# EAGLE library part TC55V16100FT (library xess)
Toshiba 1Mx16 Async. SRAM
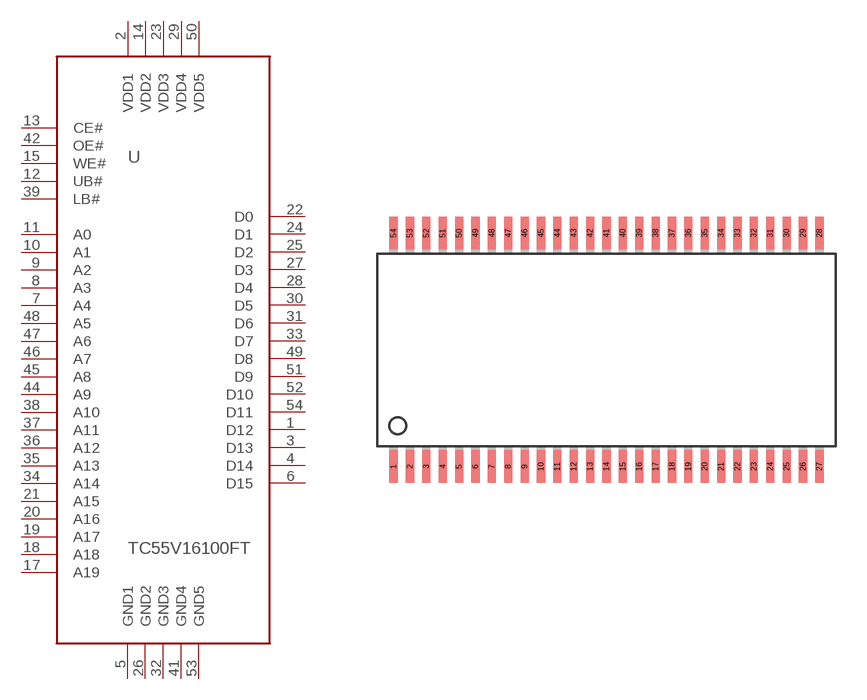
[diagram p23: symbol with the pads of TSOP54; footprint TSOP54]

Designator prefix U

## TC55V16100FT  [TSOP54]
1  D12
2  VDD1  pwr
3  D13
4  D14
5  GND1  pwr
6  D15
7  A4  in
8  A3  in
9  A2  in
10  A1  in
11  A0  in
12  UB#  in
13  CE#  in
14  VDD2  pwr
15  WE#  in
17  A19  in
18  A18  in
19  A17  in
20  A16  in
21  A15  in
22  D0
23  VDD3  pwr
24  D1
25  D2
26  GND2  pwr
27  D3
28  D4
29  VDD4  pwr
30  D5
31  D6
32  GND3  pwr
33  D7
34  A14  in
35  A13  in
36  A12  in
37  A11  in
38  A10  in
39  LB#  in
41  GND4  pwr
42  OE#  in
44  A9  in
45  A8  in
46  A7  in
47  A6  in
48  A5  in
49  D8
50  VDD5  pwr
51  D9
52  D10
53  GND5  pwr
54  D11

## Footprint TSOP54 (pad centres in mm)
smd 0.4 x 1.6: 1 -10.4,-5.8; 2 -9.6,-5.8; 3 -8.8,-5.8; 4 -8,-5.8; 5 -7.2,-5.8; 6 -6.4,-5.8; 7 -5.6,-5.8; 8 -4.8,-5.8; 9 -4,-5.8; 10 -3.2,-5.8; 11 -2.4,-5.8; 12 -1.6,-5.8; 13 -0.8,-5.8; 14 0,-5.8; 15 0.8,-5.8; 16 1.6,-5.8; 17 2.4,-5.8; 18 3.2,-5.8; 19 4,-5.8; 20 4.8,-5.8; 21 5.6,-5.8; 22 6.4,-5.8; 23 7.2,-5.8; 24 8,-5.8; 25 8.8,-5.8; 26 9.6,-5.8; 27 10.4,-5.8; 28 10.4,5.6; 29 9.6,5.6; 30 8.8,5.6; 31 8,5.6; 32 7.2,5.6; 33 6.4,5.6; 34 5.6,5.6; 35 4.8,5.6; 36 4,5.6; 37 3.2,5.6; 38 2.4,5.6; 39 1.6,5.6; 40 0.8,5.6; 41 0,5.6; 42 -0.8,5.6; 43 -1.6,5.6; 44 -2.4,5.6; 45 -3.2,5.6; 46 -4,5.6; 47 -4.8,5.6; 48 -5.6,5.6; 49 -6.4,5.6; 50 -7.2,5.6; 51 -8,5.6; 52 -8.8,5.6; 53 -9.6,5.6; 54 -10.4,5.6